# Altium footprint library Data_logger.PcbLib: 66 footprints (part 1 of 5)
Each footprint in its own frame and in the unit in brackets; x right, y up, seen from the top. Pads: shape width x height; smd on the part's side, far side on the other; paste and mask are expansions set on the pad; w line width, h text height; cw(c..) or ccw(c..) is an arc to the next point about the centre after c.
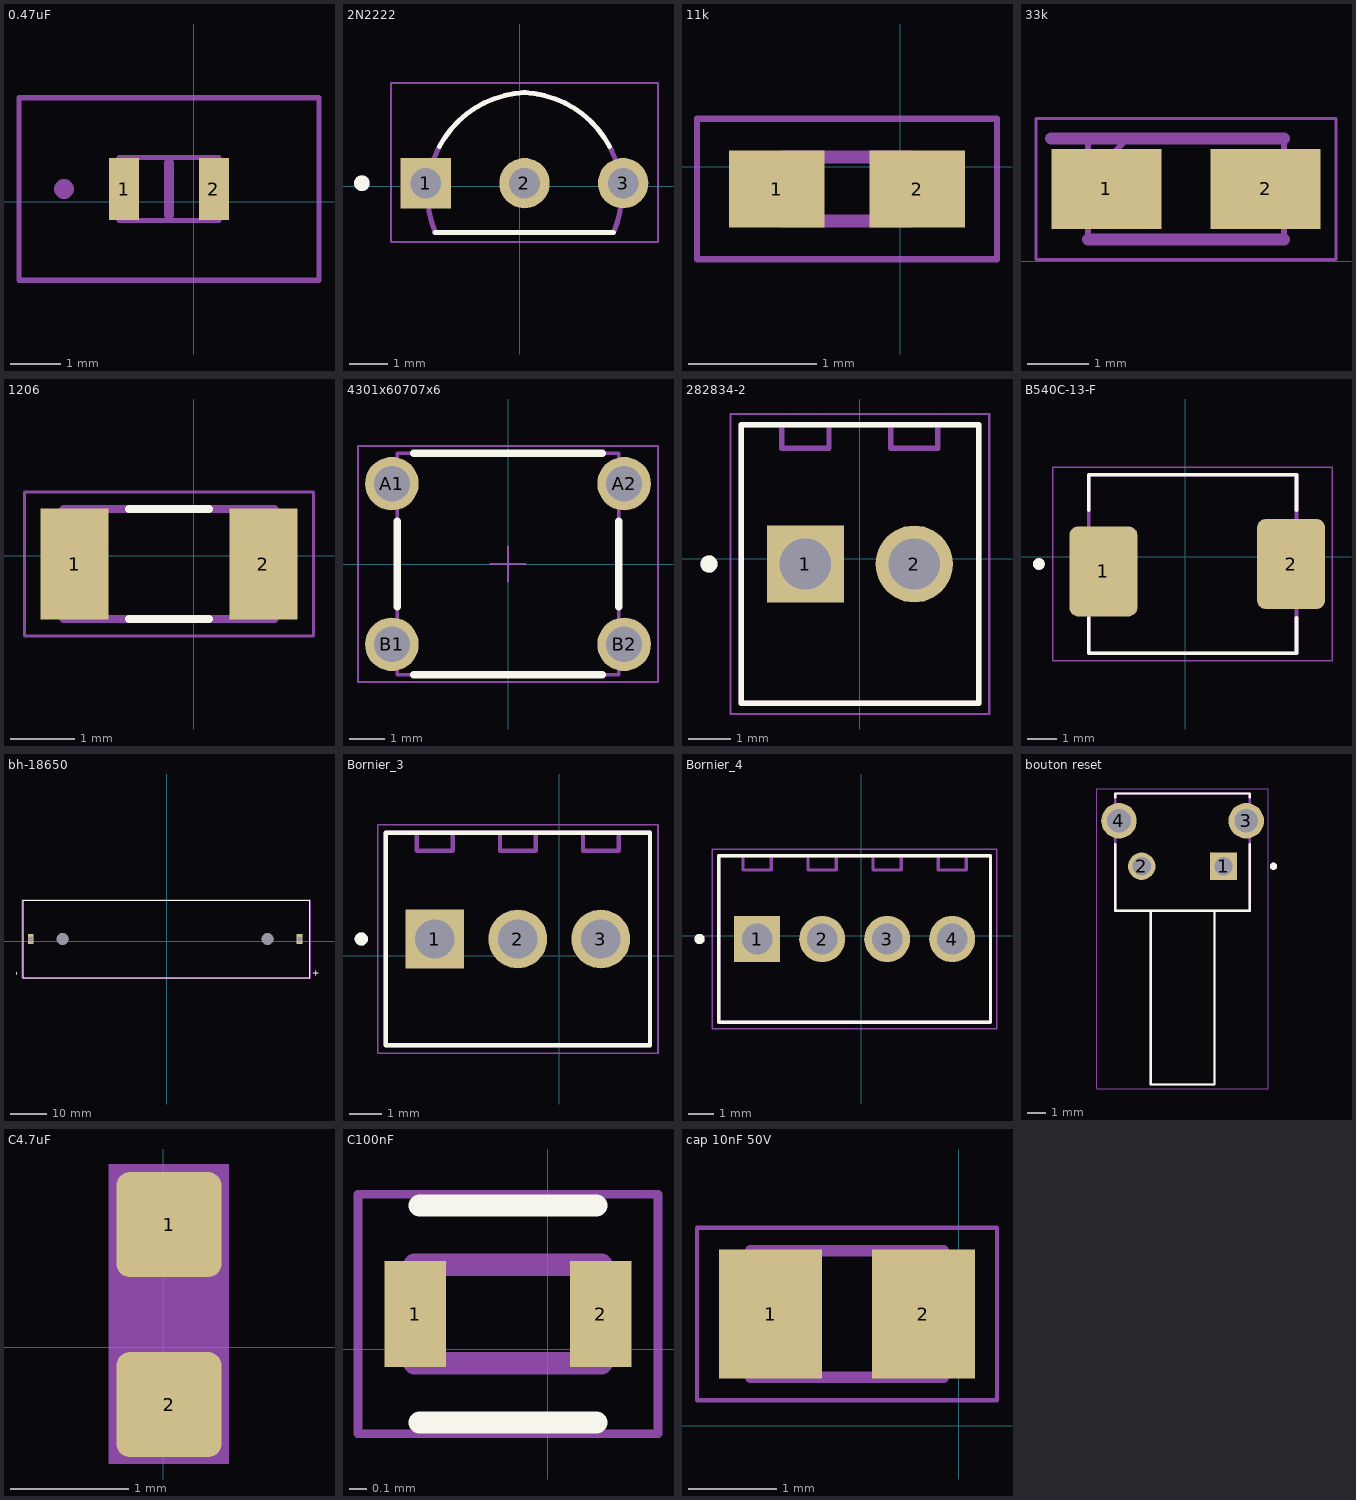
[diagram p0: the footprints below, top view; thin cyan lines are the x and y axes]

## 0.47uF [mil]
pads (2):
  rect 23.62x49.21 smd: 1(-54.96,10) 2(15.9,10)
Bottom Assembly:
  lines w3.94: -137.64,-61.85 -137.64,81.85 98.58,81.85 98.58,-61.85 -137.64,-61.85 ; -58.9,-14.61 -58.9,34.61 19.84,34.61 19.84,-14.61 -58.9,-14.61
Mechanical 7:
  lines w7.87: -19.53,-10.67 -19.53,30.67 ; -102.21,6.06 ccw(c-102.21,10) -102.21,13.94 ccw(c-102.21,10) -102.21,6.06
3D body "GRM21BR71H474KA88L.stp": height 49.61, standoff 0.39, extent -58.9,-10 19.84,29.37

## 2N2222 [mm]
pads (3):
  rect 1.298x1.298 / inner round 1.298 / far side rect 1.298x1.298 hole 0.79: 1(-2.413,0.083)
  round 1.298 hole 0.79: 2(0.127,0.083) 3(2.667,0.083)
Top Overlay:
  circle w0.2: c-4.062,0.083 r0.1
  lines w0.127: -2.173,-1.187 2.427,-1.187 ; -2.063,1.032 cw(c0.239,-0.192) 0.148,2.414 ; 0.106,2.414 cw(c0.015,-0.192) 2.317,1.032
Top 3D Body:
  circle w0.2: c-4.062,0.083 r0.1
  lines w0.127: -2.18,-1.169 cw(c0.237,-0.192) 0.146,2.414 ; -2.173,-1.187 2.427,-1.187 ; 0.108,2.414 cw(c0.017,-0.192) 2.434,-1.169
Top Courtyard:
  lines w0.05: -3.312,-1.437 -3.312,2.665 3.566,2.665 3.566,-1.437 -3.312,-1.437
3D body "step_temp.STEP": height 6.89, standoff -10.21, extent -2.613,-1.441 2.867,2.159

## 11k [mm]
pads (2):
  rect 0.75x0.6 smd: 1(-0.967,-0.175) 2(0.133,-0.175)
Bottom Assembly:
  lines w0.05: -1.592,-0.725 0.758,-0.725 0.758,0.375 -1.592,0.375 -1.592,-0.725
  lines w0.1: -0.917,-0.425 0.083,-0.425 0.083,0.075 -0.917,0.075 -0.917,-0.425
3D body "CR0402-FX-1102GLF.stp": height 0.38, standoff 0.03, extent -0.925,-0.421 0.075,0.079

## 33k [mm]
pads (2):
  rect 1.8x1.3 smd: 1(-4.39,1.183) 2(-1.79,1.183)
Bottom Assembly:
  lines w0.05: -5.54,0.033 -0.64,0.033 -0.64,2.333 -5.54,2.333 -5.54,0.033
  lines w0.1: -4.69,1.358 -4.04,2.008 ; -4.69,0.358 -1.49,0.358 -1.49,2.008 -4.69,2.008 -4.69,0.358
Mechanical 7:
  lines w0.2: -5.29,2.008 -1.49,2.008 ; -4.69,0.358 -1.49,0.358
3D body "TPSA336K010R0700.stp": height 1.8, standoff 0, extent -4.69,0.358 -1.49,2.008

## 1206 [mm]
pads (2):
  rect 1.05x1.72 smd: 1(-1.841,-0.127) 2(1.079,-0.127)
Top Overlay:
  lines w0.127: -1.001,-0.977 0.239,-0.977 ; -1.001,0.723 0.239,0.723
Top 3D Body:
  lines w0.127: -2.011,-0.977 -2.011,0.723 1.249,0.723 1.249,-0.977 -2.011,-0.977
Top Courtyard:
  lines w0.05: -2.616,-1.239 -2.616,0.985 1.854,0.985 1.854,-1.239 -2.616,-1.239
3D body "CRGCQ1206F1K5.STEP": height 0.65, standoff 0, extent -1.931,-0.902 1.169,0.648

## 4301x60707x6 [mm]
pads (4):
  round 1.5 hole 1: A1(-3.25,2.25) A2(3.25,2.25) B1(-3.25,-2.25) B2(3.25,-2.25)
Top Overlay:
  lines w0.2: -3.1,-1.2 -3.1,1.2 ; -2.65,-3.1 2.65,-3.1 ; -2.65,3.1 2.65,3.1 ; 3.1,-1.2 3.1,1.2
Top Component Outline:
  lines w0.1: -3.1,-3.1 -3.1,3.1 3.1,3.1 3.1,-3.1 -3.1,-3.1
Top Courtyard:
  lines w0.05: -0.5,0 0.5,0 ; 0,-0.5 0,0.5 ; -4.2,-3.3 4.2,-3.3 4.2,3.3 -4.2,3.3 -4.2,-3.3
3D body "4301x60707x6.stp": height 7.05, standoff -3.45, extent -3.947,-3.1 3.947,3.1

## 282834-2 [mm]
pads (2):
  rect 1.8x1.8 / inner round 1.8 / far side rect 1.8x1.8 hole 1.2: 1(-1.27,-0.127)
  round 1.8 hole 1.2: 2(1.27,-0.127)
Top Overlay:
  circle w0.2: c-3.52,-0.127 r0.1
  lines w0.127: -2.77,-3.377 -2.77,3.123 2.77,3.123 2.77,-3.377 -2.77,-3.377
Top 3D Body:
  circle w0.2: c-3.52,-0.127 r0.1
  lines w0.127: -1.82,3.073 -1.82,2.573 -0.72,2.573 -0.72,3.073 ; 0.72,3.073 0.72,2.573 1.82,2.573 1.82,3.073 ; -2.77,-3.377 -2.77,3.123 2.77,3.123 2.77,-3.377 -2.77,-3.377
Top Courtyard:
  lines w0.05: -3.02,-3.627 3.02,-3.627 3.02,3.373 -3.02,3.373 -3.02,-3.627
3D body "282834-2--3DModel-STEP-269445.STEP": height 10, standoff -3.4, extent -2.77,-3.377 2.77,3.123

## A3944KLPTR-T [mm]

## B540C-13-F [mm]
pads (2):
  rrect25% 2.33x3.07 smd: 1(-2.794,-0.508) 2(3.619,-0.254)
Top Overlay:
  circle w0.2: c-4.996,-0.254 r0.1
  lines w0.127: -3.296,-2.103 -3.296,-3.304 3.804,-3.304 3.804,-2.103 ; -3.296,1.595 -3.296,2.796 3.804,2.796 3.804,1.595
Top 3D Body:
  circle w0.2: c-4.996,-0.254 r0.1
  lines w0.127: -3.296,-3.304 -3.296,2.796 3.804,2.796 3.804,-3.304 -3.296,-3.304
Top Courtyard:
  lines w0.05: -4.526,-3.554 5.034,-3.554 5.034,3.046 -4.526,3.046 -4.526,-3.554
3D body "B540C-13-F--3DModel-STEP-269445.STEP": height 2.5, standoff 0, extent -3.462,-3.421 4.478,2.485

## bh-18650 [mm]
pads (4):
  rect 1.6x2.6 hole 1.4 square: N(-36.942,0.635) P(35.958,0.635)
  round 3.2 hole 3.2 unplated: ""(-28.297,0.635) ""(27.313,0.635)
Top Overlay:
  lines w0.127: -38.977,-9.815 -38.977,11.085 38.723,11.085 38.723,-9.815 -38.977,-9.815
  text "+" at 39.497,-9.525 h1.78
  text "-" at -40.132,-9.229 h1.78
Top 3D Body:
  lines w0.127: -38.977,-9.815 -38.977,0.635 -38.977,11.085 38.723,11.085 38.723,0.635 38.723,-9.815 -38.977,-9.815
Top Courtyard:
  lines w0.05: -39.227,-10.065 -39.227,11.335 38.973,11.335 38.973,-10.065 -39.227,-10.065
3D body "Li-Ion_Cell_Holder_BH_18650_A.SLDPRT": height 21.3, standoff -0.1, extent -39.231,-9.851 38.469,11.049
3D body "18650.SLDPRT": height 24.2, standoff 5.8, extent -33.377,-9.2 31.623,9.2

## Bornier_3 [mm]
pads (3):
  rect 1.8x1.8 / inner round 1.8 / far side rect 1.8x1.8 hole 1.2: 1(-3.81,0.508)
  round 1.8 hole 1.2: 2(-1.27,0.508) 3(1.27,0.508)
Top Overlay:
  circle w0.2: c-6.06,0.508 r0.1
  lines w0.127: -5.31,-2.742 -5.31,3.758 2.77,3.758 2.77,-2.742 -5.31,-2.742
Top 3D Body:
  circle w0.2: c-6.06,0.508 r0.1
  lines w0.127: -4.36,3.708 -4.36,3.208 -3.26,3.208 -3.26,3.708 ; -1.82,3.708 -1.82,3.208 -0.72,3.208 -0.72,3.708 ; 0.72,3.708 0.72,3.208 1.82,3.208 1.82,3.708 ; -5.31,-2.742 -5.31,3.758 2.77,3.758 2.77,-2.742 -5.31,-2.742
Top Courtyard:
  lines w0.05: -5.56,-2.992 3.02,-2.992 3.02,4.008 -5.56,4.008 -5.56,-2.992
3D body "step_temp.STEP": height 10, standoff -3.4, extent -5.31,-2.742 2.77,3.758

## Bornier_4 [mm]
pads (4):
  rect 1.8x1.8 / inner round 1.8 / far side rect 1.8x1.8 hole 1.2: 1(-4.064,-0.127)
  round 1.8 hole 1.2: 2(-1.524,-0.127) 3(1.016,-0.127) 4(3.556,-0.127)
Top Overlay:
  circle w0.2: c-6.314,-0.127 r0.1
  lines w0.127: -5.564,-3.377 -5.564,3.123 5.056,3.123 5.056,-3.377 -5.564,-3.377
Top 3D Body:
  circle w0.2: c-6.314,-0.127 r0.1
  lines w0.127: -4.614,3.073 -4.614,2.573 -3.514,2.573 -3.514,3.073 ; -2.074,3.073 -2.074,2.573 -0.974,2.573 -0.974,3.073 ; 0.466,3.073 0.466,2.573 1.566,2.573 1.566,3.073 ; 3.006,3.073 3.006,2.573 4.106,2.573 4.106,3.073 ; -5.564,-3.377 -5.564,3.123 5.056,3.123 5.056,-3.377 -5.564,-3.377
Top Courtyard:
  lines w0.05: -5.814,-3.627 5.306,-3.627 5.306,3.373 -5.814,3.373 -5.814,-3.627
3D body "step_temp.STEP": height 10, standoff -3.6, extent -5.564,-3.377 5.056,3.123

## bouton reset [mm]
pads (4):
  rect 1.508x1.508 / inner round 1.508 / far side rect 1.508x1.508 hole 1: 1(26.813,20.014)
  round 1.508 hole 1: 2(22.313,20.014)
  round 1.95 hole 1.3: 3(28.063,22.514) 4(21.063,22.514)
Top Overlay:
  circle w0.2: c29.563,20.014 r0.1
  lines w0.127: 20.863,21.219 20.863,17.564 22.813,17.564 ; 20.863,23.809 20.863,24.014 28.263,24.014 28.263,23.809 ; 28.263,21.219 28.263,17.564 26.313,17.564 ; 22.813,17.564 22.813,8.014 26.313,8.014 26.313,17.564 ; 22.813,17.564 26.313,17.564
Top 3D Body:
  circle w0.2: c29.563,20.014 r0.1
  lines w0.127: 22.813,17.564 22.813,8.014 26.313,8.014 26.313,17.564 ; 22.813,17.564 20.863,17.564 20.863,24.014 28.263,24.014 28.263,17.564 26.313,17.564 ; 22.813,17.564 26.313,17.564
Top Courtyard:
  lines w0.05: 19.838,7.764 29.288,7.764 29.288,24.264 19.838,24.264 19.838,7.764
3D body "CUI_DEVICES_TS11-674-120-BK-260-RA-D.step": height 6.1, standoff -5, extent 20.469,9.575 28.781,24.425

## C4.7uF [mil]
pads (2):
  rrect25% 35x35 smd: 1(1.97,40.83) 2(1.97,-19.17)
Top Courtyard:
  region: 21.97,61.02 21.97,-38.98 -18.03,-38.98 -18.03,61.02
3D body "CC0603KRX5R6BB475.STEP": height 30.75, standoff -0.75, extent -15.75,-19.68 19.69,43.31

## C100nF [mm]
pads (2):
  rect 0.35x0.6 smd: 1(-0.749,0.2) 2(0.301,0.2)
Top Overlay:
  lines w0.127: -0.724,-0.415 0.276,-0.415 ; -0.724,0.815 0.276,0.815
Top 3D Body:
  lines w0.127: -0.754,-0.08 -0.754,0.48 0.306,0.48 0.306,-0.08 -0.754,-0.08
Top Courtyard:
  lines w0.05: -1.074,-0.479 -1.074,0.879 0.626,0.879 0.626,-0.479 -1.074,-0.479
3D body "CC0402KRX7R7BB104.STEP": height 0.5, standoff 0, extent -0.724,-0.079 0.276,0.471

## cap 10nF 50V [mm]
pads (2):
  rect 1.17x1.47 smd: 1(-2.141,1.27) 2(-0.399,1.27)
Top 3D Body:
  lines w0.127: -2.37,0.55 -0.17,0.55 -0.17,1.99 -2.37,1.99 -2.37,0.55
Top Courtyard:
  lines w0.05: -2.978,0.287 0.438,0.287 0.438,2.253 -2.978,2.253 -2.978,0.287
3D body "VJ0805Y103KXAMC.STEP": height 1.26, standoff 0.01, extent -2.27,0.508 -0.27,1.958